# Altium footprint library SOT芯片.PcbLib: 15 footprints
Each footprint in its own frame and in the unit in brackets; x right, y up, seen from the top. Pads: shape width x height; smd on the part's side, far side on the other; paste and mask are expansions set on the pad; w line width, h text height; cw(c..) or ccw(c..) is an arc to the next point about the centre after c.
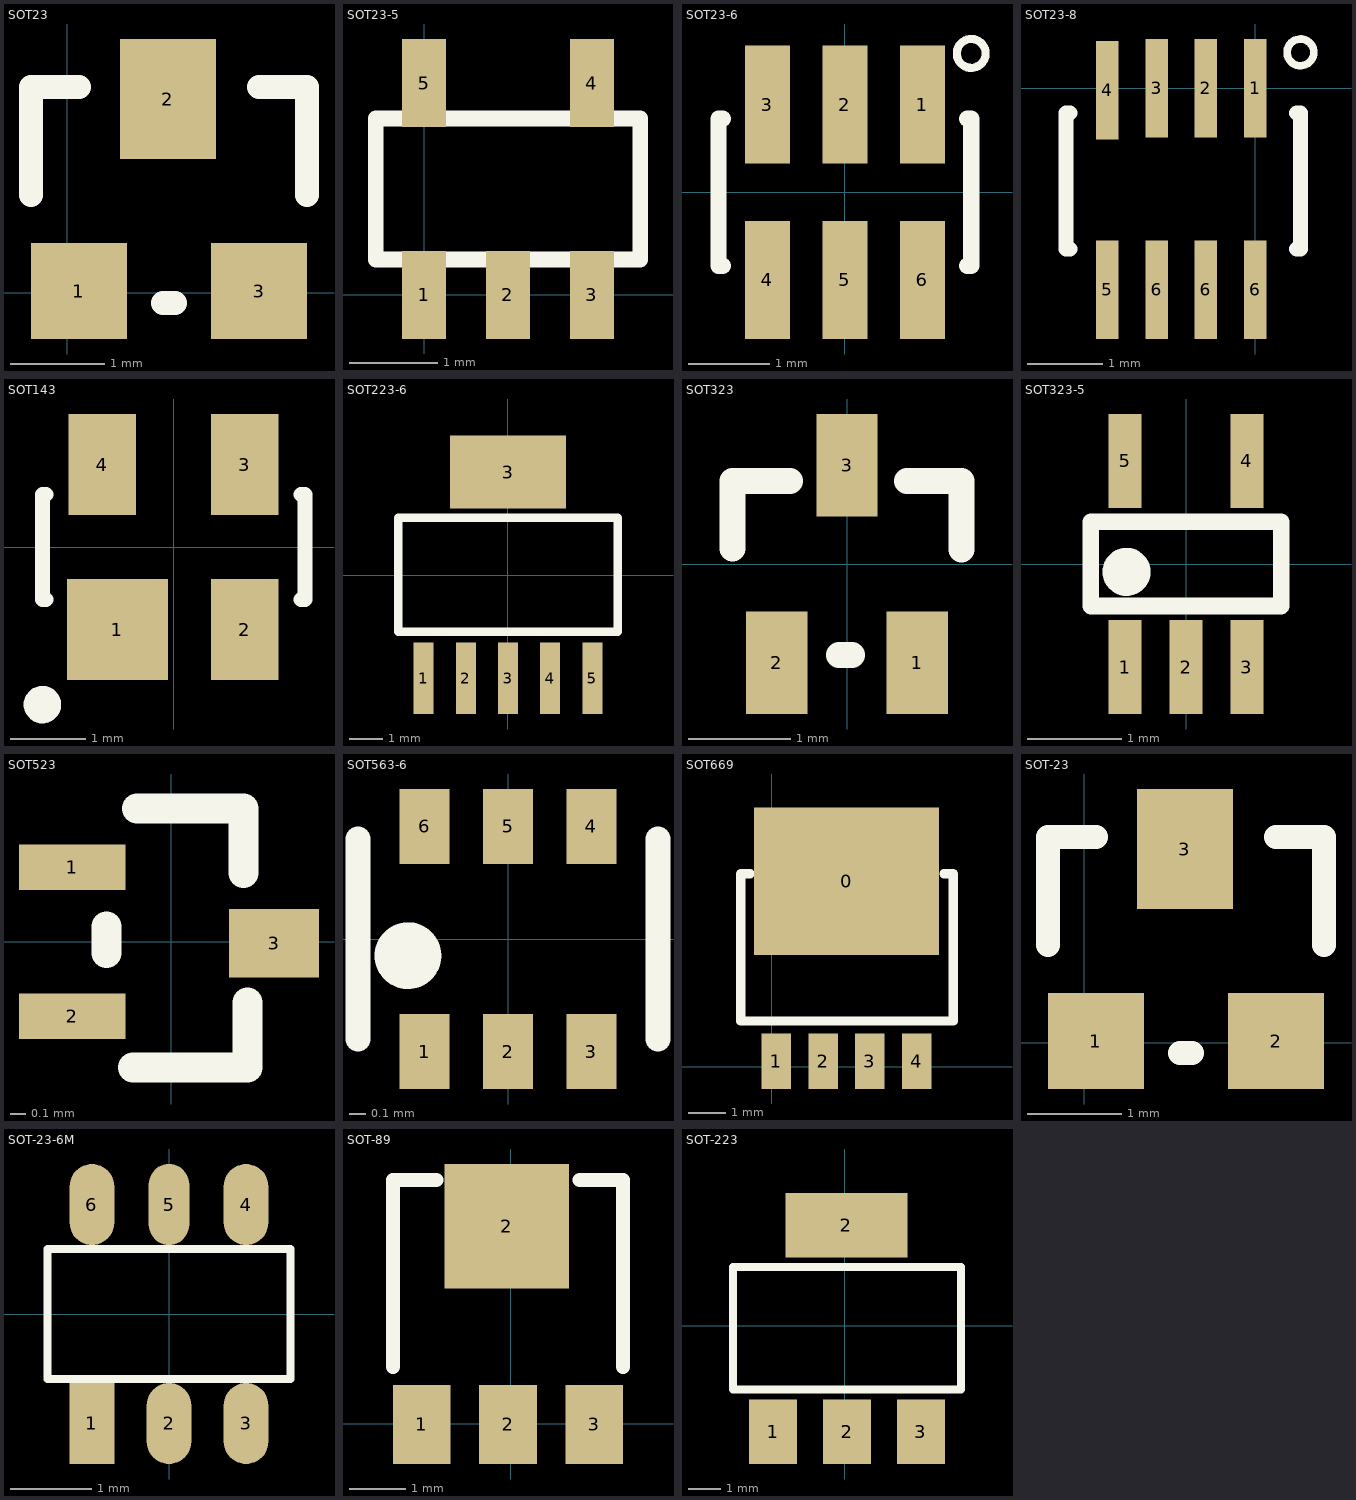
[diagram p0: the footprints below, top view; thin cyan lines are the x and y axes]

## SOT23 [mil]
pads (3):
  rect 40x40 smd: 1(4.88,0.63) 3(79.88,0.63)
  rect 40x50 smd: 2(41.88,80.63)
Top Overlay:
  lines w10: -15.12,40.63 -15.12,85.63 4.88,85.63 ; 39.88,-4.37 44.88,-4.37 ; 79.88,85.63 99.88,85.63 99.88,40.63
3D body "SOT-23-3.STEP": height 47.24, standoff 0, extent -14.87,-11.02 99.3,99.22

## SOT23-5 [mm]
pads (5):
  rect 0.5x1 smd: 1(0,0) 2(0.95,0) 3(1.9,0) 4(1.9,2.4) 5(0,2.4)
Top Overlay:
  lines w0.178: -0.55,0.4 2.45,0.4 2.45,2 -0.55,2 -0.55,0.4
3D body "User Library-SOT23-5.STEP": height 1.09, standoff -0.01, extent -0.5,-0.201 2.399,2.599

## SOT23-6 [mm] "SOT-23/SC-74A; 5 Leads; Body 3.1 x 3 mm, inc. leads (LxW max)"
height 1.45
pads (6):
  rect 0.55x1.45 smd: 1(0.95,1.075) 2(0,1.075) 3(-0.95,1.075) 4(-0.95,-1.075) 5(0,-1.075) 6(0.95,-1.075)
Top Overlay:
  circle w0.1: c1.549,1.702 r0.177
  lines w0.2: -1.5,-0.9 -1.55,-0.9 -1.55,0.9 -1.5,0.9 ; 1.5,-0.9 1.55,-0.9 1.55,0.9 1.5,0.9
3D body "sot236.step": height 1, standoff 0, extent -1.435,-1.195 1.485,1.145

## SOT23-8 [mm]
pads (8):
  rect 0.3x1.3 smd: 1(0,0) 2(-0.652,0) 3(-1.304,0) 4(-1.956,-0.025) 5(-1.956,-2.667) 6(-1.304,-2.667) 6(-0.652,-2.667) 6(0,-2.667)
Top Overlay:
  circle w0.1: c0.599,0.474 r0.177
  lines w0.2: -2.45,-2.127 -2.5,-2.127 -2.5,-0.327 -2.45,-0.327 ; 0.55,-2.127 0.6,-2.127 0.6,-0.327 0.55,-0.327
3D body "User Library-TSOT-23-8.STEP": height 1, standoff 0, extent -2.415,-2.696 0.485,0.104

## SOT143 [mm] "SOT-143; 4 Leads; Body 3 x 2.6 mm, inc. leads (LxW max)"
height 1.1
pads (4):
  rect 1.35x1.35 smd: 1(-0.75,-1.1)
  rect 0.9x1.35 smd: 2(0.95,-1.1) 3(0.95,1.1) 4(-0.95,1.1)
Top Overlay:
  circle w0.25: c-1.75,-2.1 r0.125
  lines w0.2: -1.7,-0.7 -1.75,-0.7 -1.75,0.7 -1.7,0.7 ; 1.7,-0.7 1.75,-0.7 1.75,0.7 1.7,0.7
3D body: height 0.2, standoff 0, extent -1.149,0.408 -0.803,1.459
3D body: height 0.2, standoff 0, extent 0.784,0.408 1.13,1.459
3D body: height 0.2, standoff 0, extent -1.166,-1.503 -0.82,-0.452
3D body: height 0.2, standoff 0, extent 0.779,-1.464 1.125,-0.414
3D body: height 0.8, standoff 0, extent -1.516,-0.878 1.514,0.931

## SOT223-6 [mm]
pads (6):
  rect 0.6x2.15 smd: 1(-2.54,-3.1) 2(-1.27,-3.1) 3(0,-3.1) 4(1.27,-3.1) 5(2.54,-3.1)
  rect 3.5x2.2 smd: 3(0,3.1)
Top Overlay:
  lines w0.254: -3.3,-1.7 -3.3,1.73 3.3,1.73 3.3,-1.7 -3.3,-1.7
3D body "User Library-SOT223-6.STEP": height 1.9, standoff -0.17, extent -3.299,-3.681 3.251,3.579

## SOT323 [mm]
pads (3):
  rect 0.6x1 smd: 1(0.686,-0.965) 2(-0.686,-0.965) 3(0,0.965)
Top Overlay:
  lines w0.254: -1.118,0.152 -1.118,0.813 -0.559,0.813 ; -0.076,-0.889 0.051,-0.889 ; 0.584,0.813 1.118,0.813 1.118,0.143
3D body "SOT323 (SC70-3)-1.STEP": height 1.1, standoff 0, extent -1.092,-1.097 1.108,1.148

## SOT323-5 [mm] "SC70"
pads (5):
  rect 0.35x1 smd: 1(-0.65,-1.1) 2(0,-1.1) 3(0.65,-1.1) 4(0.65,1.1) 5(-0.65,1.1)
Top Overlay:
  circle w0.254: c-0.635,-0.084 r0.13
  lines w0.178: -1.016,-0.447 -1.016,0.449 1.016,0.449 1.016,-0.447 -1.016,-0.447
3D body "sot353.step": height 1, standoff 0, extent -1.05,-1.158 1.05,1.142

## SOT523 [mil]
pads (3):
  rect 28x12 smd: 1(-25.98,19.58) 2(-25.98,-19.58)
  rect 23.62x18 smd: 3(26.98,-0.46)
Top Overlay:
  lines w7.87: -17,-3 -17,4 ; -10,-33 20,-33 20,-16 ; -9,35 19,35 19,18
3D body "SOT-523.step": height 31.5, standoff 0, extent -32.5,-31.49 30.49,31.5

## SOT563-6 [mm]
pads (6):
  rect 0.3x0.45 smd: 1(-0.5,-0.675) 2(0,-0.675) 3(0.5,-0.675) 4(0.5,0.675) 5(0,0.675) 6(-0.5,0.675)
Top Overlay:
  circle w0.2: c-0.6,-0.1 r0.1
  lines w0.15: -0.9,-0.6 -0.9,0.6 ; 0.9,-0.6 0.9,0.6
3D body "SW3dPS-SOT-563.STEP": height 0.58, standoff 0, extent -0.8,-0.8 0.8,0.826

## SOT669 [mm] "IFPAK"
pads (5):
  rect 5x4 smd: 0(2.032,5.029)
  rect 0.8x1.5 smd: 1(0.127,0.152) 2(1.397,0.152) 3(2.667,0.152) 4(3.937,0.152)
Top Overlay:
  lines w0.254: -0.584,5.232 -0.838,5.232 -0.838,1.245 4.928,1.245 4.928,5.232 4.674,5.232
3D body "User Library-SOT669-CW.step": height 1.55, standoff 0.35, extent -0.418,-0.002 4.482,6.426

## SOT-23 [mil]
pads (3):
  rect 40x40 smd: 1(4.88,0.63) 2(79.88,0.63)
  rect 40x50 smd: 3(41.88,80.63)
Top Overlay:
  lines w10: -15.12,40.63 -15.12,85.63 4.88,85.63 ; 39.88,-4.37 44.88,-4.37 ; 79.88,85.63 99.88,85.63 99.88,40.63
3D body "SOT-23-3.STEP": height 47.24, standoff 0, extent -14.87,-11.02 99.3,99.22

## SOT-23-6M [mm]
pads (6):
  rect 0.55x1 smd: 1(-0.95,-1.35)
  oval 0.55x1 smd: 2(0,-1.35) 3(0.95,-1.35) 4(0.95,1.35) 6(-0.95,1.35)
  oval 0.5x1 smd: 5(0,1.35)
Top Overlay:
  lines w0.1: -1.5,-0.8 1.5,-0.8 1.5,0.8 -1.5,0.8 -1.5,-0.8
3D body "SOT-23-6-3.STEP": height 0.86, standoff 0, extent -1.5,-1.405 1.5,1.405

## SOT-89 [mil]
pads (4):
  rect 40x55 smd: 1(-61.82,-0.57) 2(-1.82,-0.57) 3(58.18,-0.57)
  rect 86.61x86.61 smd: 2(-2.76,137.22)
Top Overlay:
  lines w10: -81.82,39.43 -81.82,169.43 -51.82,169.43 ; 48.18,169.43 78.18,169.43 78.18,39.43
3D body "SOT-89.STEP": height 59.45, standoff 0, extent -90.07,-6.45 87.1,162.85

## SOT-223 [mil]
pads (4):
  rect 59x79 smd: 1(-88,-130) 2(2.55,-130) 3(93.1,-130)
  rect 150x79 smd: 2(1.88,123.54)
Top Overlay:
  lines w10: -137.45,-78 142.55,-78 142.55,72 -137.45,72 -137.45,-78
3D body "SOT-223_MP04A.STEP": height 66.93, standoff 0, extent -126.41,-138.72 129.5,135.3